# Altium schematic symbol library OLED_Display.SchLib: 1 symbol
Pins are listed as number, name and electrical type; pins without a type are passive.

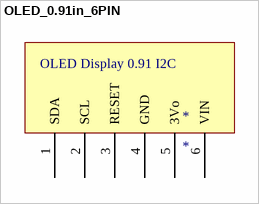
[diagram p0: symbol OLED_0.91in_6PIN]

## OLED_0.91in_6PIN
designator *
footprint PCBComponent_1
pins: 1 SDA, 2 SCL, 3 RESET, 4 GND, 5 3Vo, 6 VIN
text: OLED Display 0.91 I2C